# Altium footprint library Switches.PcbLib: 1 footprints
Each footprint in its own frame and in the unit in brackets; x right, y up, seen from the top. Pads: shape width x height; smd on the part's side, far side on the other; paste and mask are expansions set on the pad; w line width, h text height; cw(c..) or ccw(c..) is an arc to the next point about the centre after c.
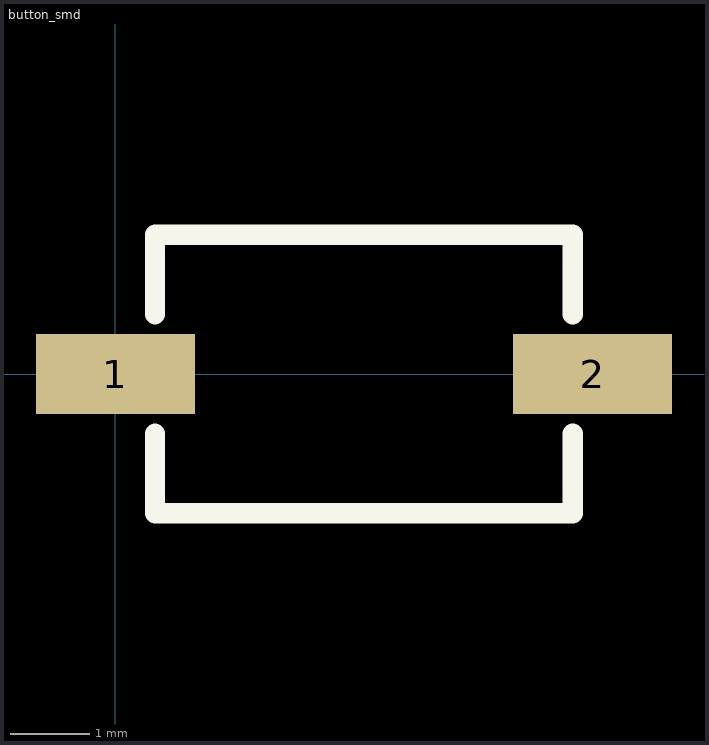
[diagram p0: the footprint, top view; thin cyan lines are the x and y axes]

## button_smd [mm]
pads (2):
  rect 2x1 smd: 1(0,0) 2(6,0)
Top Overlay:
  lines w0.254: 0.5,-0.75 0.5,-1.75 5.75,-1.75 5.75,-0.75 ; 0.5,0.75 0.5,1.75 5.75,1.75 5.75,0.75